# EAGLE library part 5-104074-1-CONNECTOR (library eric-custom)
10 Positions Header, Shrouded Connector 0.050" (1.27mm) Through Hole, Right Angle Gold
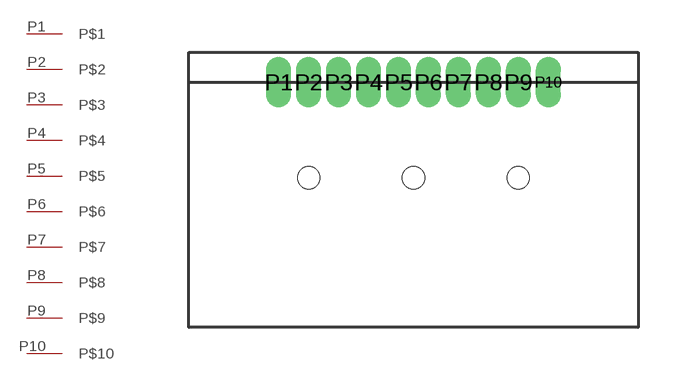
[diagram p23: symbol with the pads of 5-104074-1-CONNECTOR; footprint 5-104074-1-CONNECTOR]

Designator prefix -

## 5-104074-1-CONNECTOR  [5-104074-1-CONNECTOR]
P1  P$1
P2  P$2
P3  P$3
P4  P$4
P5  P$5
P6  P$6
P7  P$7
P8  P$8
P9  P$9
P10  P$10

## Footprint 5-104074-1-CONNECTOR (pad centres in mm)
drill 0.559 pad 0.711 long: P1 -6.35,0; P2 -5.08,0; P3 -3.81,0; P4 -2.54,0; P5 -1.27,0; P6 0,0; P7 1.27,0; P8 2.54,0; P9 3.81,0; P10 5.08,0
hole 0.94 at -5.08,-4.064
hole 0.94 at 3.81,-4.064
hole 0.94 at -0.635,-4.064